# Altium schematic symbol library Power Board SCH Lib.SchLib: 20 symbols
Pins are listed as number, name and electrical type; pins without a type are passive.

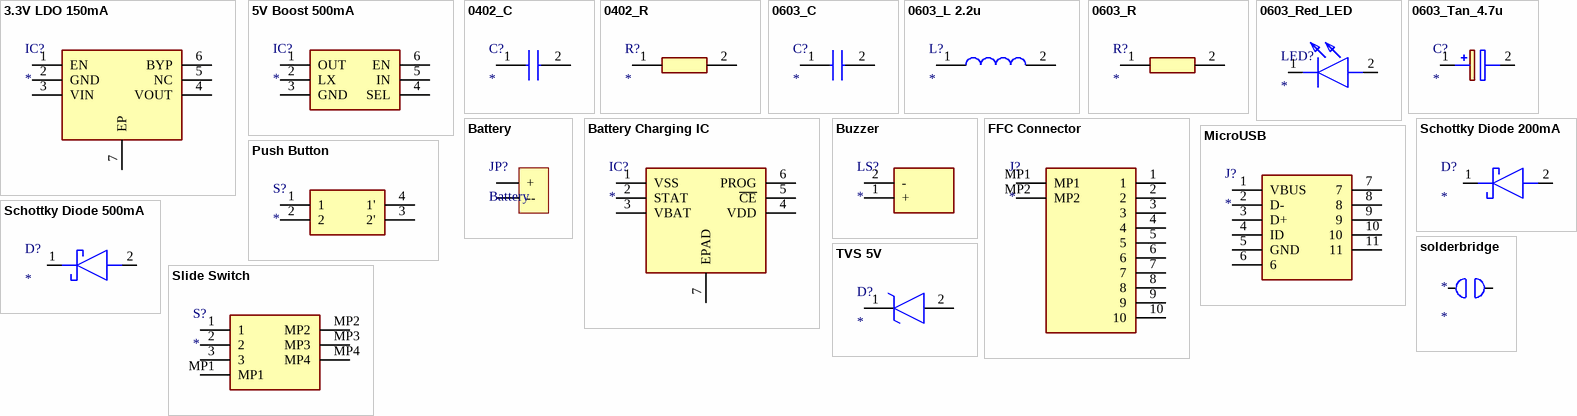
[diagram p0: symbols 3.3V LDO 150mA to TVS 5V]

## 3.3V LDO 150mA
designator IC?
Integrated Circuit; Manufacturer_Name: Microchip; Manufacturer_Part_Number: MIC47050-1.8YML-TR; Datasheet Link: https://componentsearchengine.com/Datasheets/1/MIC47050-1.8YML-TR.pdf; Height: 0.9mm
footprint SON65P200X200X90-7N-D
pins: 1 EN, 2 GND, 3 VIN, 4 VOUT, 5 NC, 6 BYP, 7 EP

## 5V Boost 500mA
designator IC?
Integrated Circuit; Manufacturer_Name: Maxim Integrated; Manufacturer_Part_Number: MAX17223ELT+T; Datasheet Link: https://datasheets.maximintegrated.com/en/ds/MAX17220-MAX17225.pdf; Height: 0.8mm
footprint SON65P200X200X80-6N
pins: 1 OUT, 2 LX, 3 GND, 4 SEL, 5 IN, 6 EN

## 0402_C
designator C?
Capacitor; Manufacturer_Name: Kemet; Manufacturer_Part_Number: C0402C474K8RACTU; Datasheet Link: https://content.kemet.com/datasheets/KEM_C1002_X7R_SMD.pdf; Height: 0.55mm
footprint CAPC1005X55N
pins: 1, 2

## 0402_R
designator R?
Resistor; Manufacturer_Name: Panasonic; Manufacturer_Part_Number: ERA-2ARB472X; Datasheet Link: http://industrial.panasonic.com/cdbs/www-data/pdf/RDM0000/AOA0000C307.pdf; Height: 0.4mm
footprint ERA2A_(0402)
pins: 1, 2

## 0603_C
designator C?
Capacitor; Manufacturer_Name: Vishay; Manufacturer_Part_Number: VJ0603HIFRQ1KIT; Datasheet Link: http://www.vishay.com/docs/45226/vj31xrohsautomlcc.pdf; Height: 0.97mm
footprint CAPC1608X97N
pins: 1, 2

## 0603_L 2.2u
designator L?
Inductor; Manufacturer_Name: Pulse; Manufacturer_Part_Number: PE-0603CLH2R2STS; Datasheet Link: https://www.mouser.de/datasheet/2/336/PLEI_S_A0011079421_1-2514267.pdf; Height: 1mm
footprint PE0603CLH2R2STS
pins: 1, 2

## 0603_R
designator R?
Resistor; Manufacturer_Name: Panasonic; Manufacturer_Part_Number: ERA-3KEB2403V; Datasheet Link: http://industrial.panasonic.com/cdbs/www-data/pdf/RDM0000/RDM0000C331.pdf; Height: 0.4mm
footprint ERA3KV_(0603)
pins: 1, 2

## 0603_Red_LED
designator LED?
LED; Manufacturer_Name: Wurth Elektronik; Manufacturer_Part_Number: 150060RS75000; Datasheet Link: http://katalog.we-online.de/led/datasheet/150060RS75000.pdf; Height: 0.8mm
footprint LEDC1608X80N
pins: 1 K, 2 A

## 0603_Tan_4.7u
designator C?
Capacitor Polarised; Manufacturer_Name: Vishay; Manufacturer_Part_Number: TMCJ0J475MTRF; Datasheet Link: https://componentsearchengine.com/Datasheets/1/TMCJ0J475MTRF.pdf; Height: 0.9mm
footprint CAPPM168X90N
pins: 1 +, 2 -

## Battery
designator JP?
HDR-1X2; BOM名称: 2P接插件; 版权归属: 源创客; 学习资源: www.ooocke.com
footprint HDR2.54-LI-2P (排针，2脚)
pins: 1 +, 2 --

## Battery Charging IC
designator IC?
Integrated Circuit; Manufacturer_Name: Microchip; Manufacturer_Part_Number: MCP73830LT-0AAI/MYY; Datasheet Link: https://componentsearchengine.com//MCP73830LT-0AAI_MYY.pdf; Height: 0.8mm; Mouser2 Part Number: 579-MCP73830LT0AAIMY; Mouser2 Price/Stock: https://www.mouser.com/Search/Refine.aspx?Keyword=579-MCP73830LT0AAIMY
footprint SON50P200X200X80-7N-D
pins: 1 VSS, 2 STAT, 3 VBAT, 4 VDD, 5 ~{CE}, 6 PROG, 7 EPAD

## Buzzer
designator LS?
Loudspeaker or Buzzer; Manufacturer_Name: CUI Inc.; Manufacturer_Part_Number: CPT-12123-81-SMT-TR; Datasheet Link: https://www.cuidevices.com/product/resource/cpt-12123-81-smt-tr.pdf; Height: 3.3mm
footprint HDR2.54-LI-2P (排针，2脚)
pins: 1 +, 2 -

## FFC Connector
designator J?
Connector; Manufacturer_Name: Molex; Manufacturer_Part_Number: 52892-1033; Datasheet Link: https://componentsearchengine.com/Datasheets/2/52892-1033.pdf; Height: 2mm
footprint 528921033
pins: 1, 2, 3, 4, 5, 6, 7, 8, 9, 10, MP1, MP2

## MicroUSB
designator J?
Connector; Manufacturer_Name: Molex; Manufacturer_Part_Number: 47346-1001; Datasheet Link: http://www.molex.com/webdocs/datasheets/pdf/en-us/0473461001_IO_CONNECTORS.pdf; Height: 2.94mm
footprint 473461001
pins: 1 VBUS, 2 D-, 3 D+, 4 ID, 5 GND, 6, 7, 8, 9, 10, 11

## Push Button
designator S?
Switch; Manufacturer_Name: Panasonic; Manufacturer_Part_Number: EVQ-9P701P; Datasheet Link: https://componentsearchengine.com//EVQ-9P701P.pdf; Mouser2 Part Number: 667-EVQ-9P701P; Mouser2 Price/Stock: https://www.mouser.com/Search/Refine.aspx?Keyword=667-EVQ-9P701P
footprint EVQ-9P701P
pins: 1, 2, 3 2', 4 1'

## Schottky Diode 200mA
designator D?
Schottky Diode; Manufacturer_Name: ROHM Semiconductor; Manufacturer_Part_Number: RB531SM-30FHT2R; Datasheet Link: https://componentsearchengine.com/Datasheets/2/RB531SM-30FHT2R.pdf; Height: 0.7mm
footprint SODFL1608X70N
pins: 1 K, 2 A

## Schottky Diode 500mA
designator D?
Schottky Diode; Manufacturer_Name: Comchip Technology; Manufacturer_Part_Number: CDBU0520; Description: COMCHIP TECHNOLOGY CDBU0520; Datasheet Link: https://componentsearchengine.com//CDBU0520.pdf; Height: 0.85mm; Mouser2 Part Number: 750-CDBU0520; Mouser2 Price/Stock: https://www.mouser.com/Search/Refine.aspx?Keyword=750-CDBU0520
footprint DIOC1709X85N
pins: 1 K, 2 A

## Slide Switch
designator S?
Switch; Manufacturer_Name: Wurth Elektronik; Manufacturer_Part_Number: 450404015514; Datasheet Link: https://katalog.we-online.de/em/datasheet/450404015514.pdf; Height: 1.4mm
footprint 450404015514
pins: 1, 2, 3, MP1, MP2, MP3, MP4

## solderbridge
designator *
footprint Solderbridge
pins: 1 0, 2 1

## TVS 5V
designator D?
TVS Diode (Uni-directional); Manufacturer_Name: ON Semiconductor; Manufacturer_Part_Number: SZESD9101P2T5G; Datasheet Link: https://componentsearchengine.com//SZESD9101P2T5G.pdf; Height: 0.4mm; Mouser2 Part Number: 863-SZESD9101P2T5G; Mouser2 Price/Stock: https://www.mouser.com/Search/Refine.aspx?Keyword=863-SZESD9101P2T5G
footprint SODFL1006X40N
pins: 1 K, 2 A